# EAGLE library part W25Q80DLZPIGTR (library Memory)
IC FLSH 8MBIT SPI/QUAD I/O 8WSON Manufacturer's datasheet <https://www.winbond.com/resource-files/w25q80dv%20dl_revh_10022015.pdf>
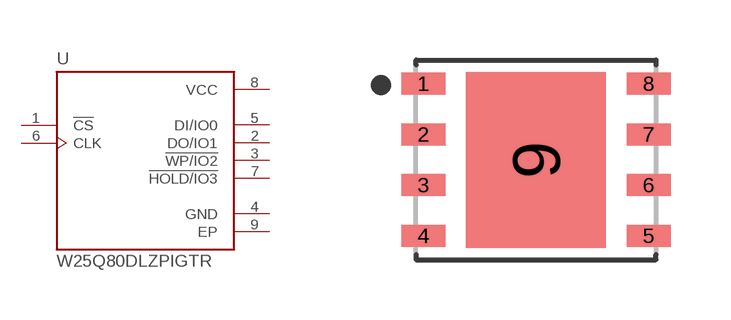
[diagram p18: symbol with the pads of WSON8; footprint WSON8]

Designator prefix U

## W25Q80DLZPIGTR (CREATED_BY: PCBLayou.com; DIGIKEY_PARTNO: 256-W25Q80DLZPIGTR-ND; MANUFACTURER: Winbond Electronics; MPN: W25Q80DLZPIG TR; PACKAGE: WSON8)  [WSON8]
1  !CS  in
2  DO/IO1
3  !WP/IO2
4  GND  pwr
5  DI/IO0
6  CLK  in
7  !HOLD/IO3
8  VCC  pwr
9  EP  pwr

## Footprint WSON8 (pad centres in mm)
8-SON, 1.27 mm pitch, 5.00 X 6.00 X 0.65 mm body, 4.00 X 3.40 mm thermal pad 8-pin SON package with 1.27 mm pitch with body size 5.00 X 6.00 X 0.65 mm and thermal pad size 4.00 X 3.40 mm
smd 1.1 x 0.55: 1 -2.817,1.905; 2 -2.817,0.635; 3 -2.817,-0.635; 4 -2.817,-1.905; 5 2.817,-1.905; 6 2.817,-0.635; 7 2.817,0.635; 8 2.817,1.905
smd 3.5 x 4.4: 9 0,0